# Altium integrated library Analog Devices Interface and Isolation Digital Isolators.IntLib: 645 symbols (part 22 of 36)
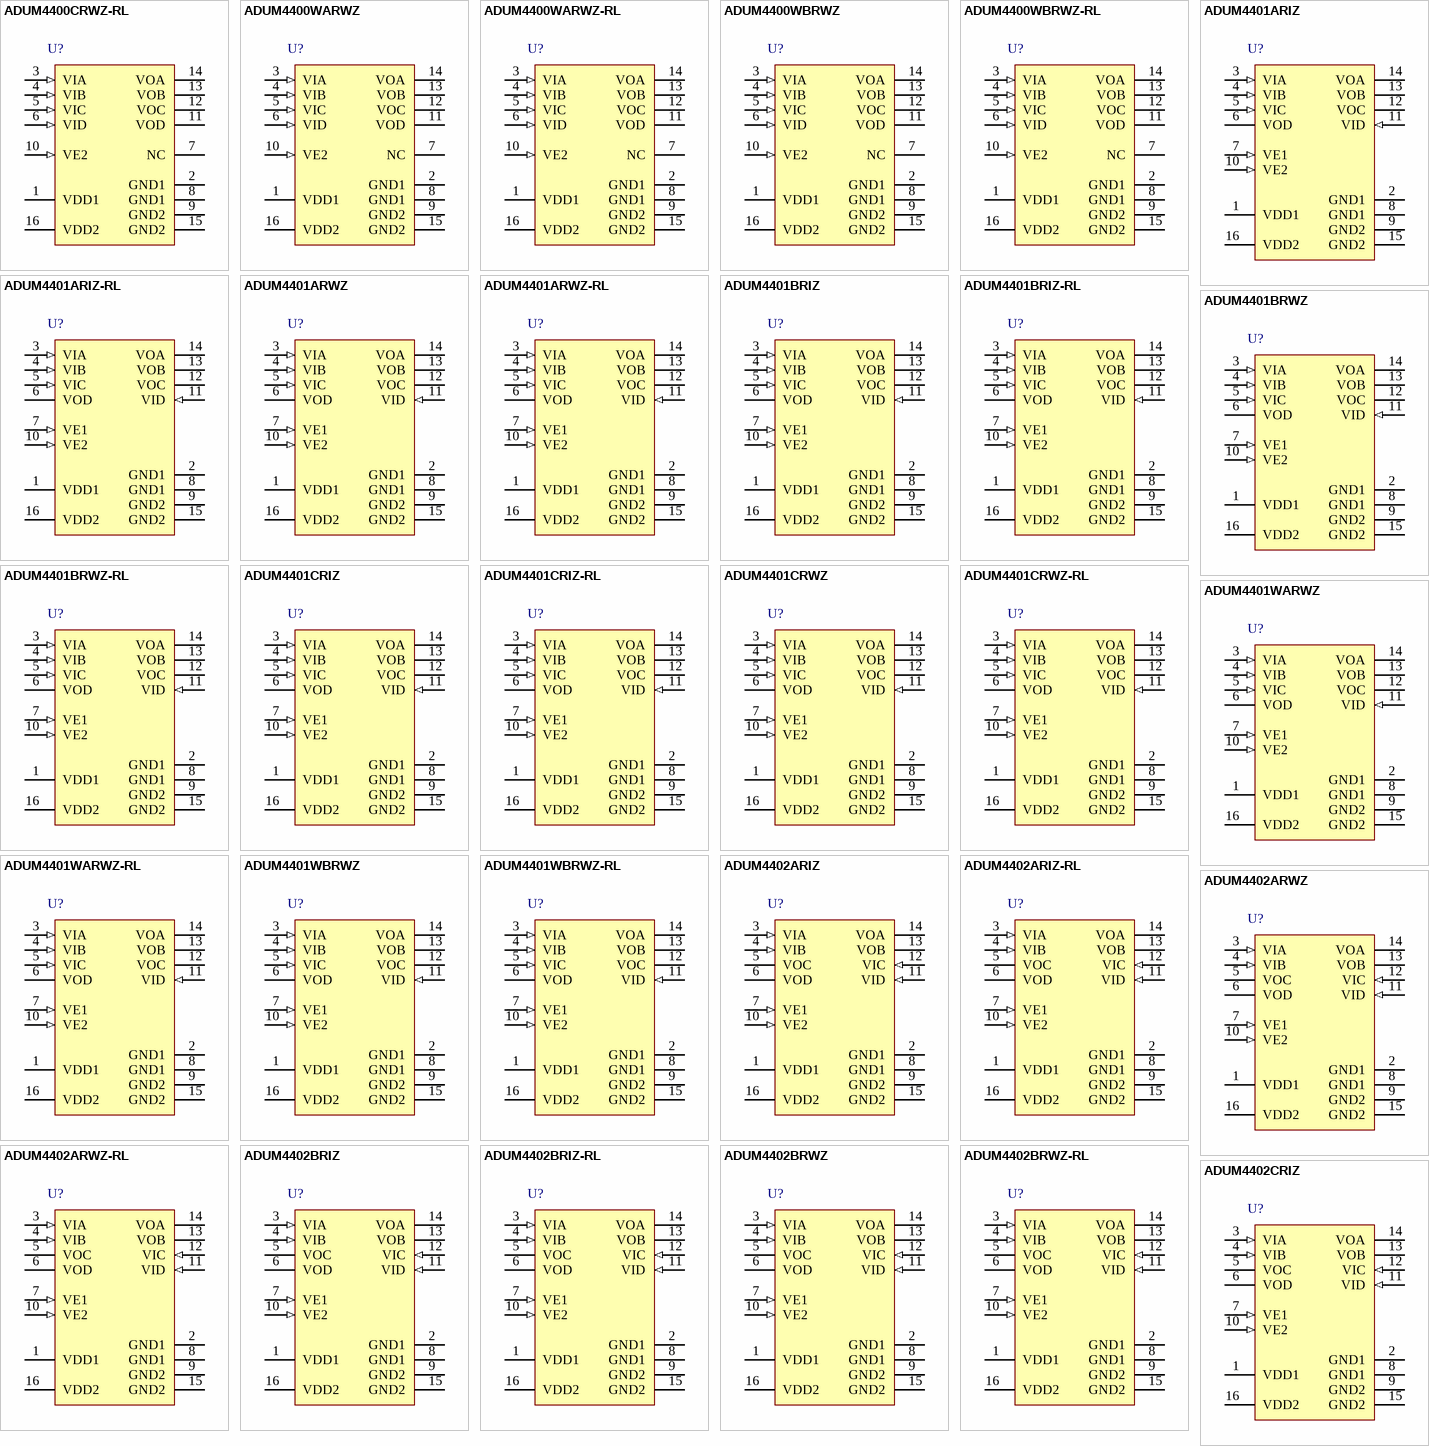
[diagram p41: symbols ADUM4400CRWZ-RL to ADUM4402CRIZ]

## ADUM4402BRIZ
designator U?
Quad Channel Digital Isolator, 5 KV rms Insulation Rating, 10 Mbps Data Rate, 50 ns Delay, Industrial, 16-pin SOIC (RI-16-1), Tube; Manufacturer: Analog Devices; PartNumber: ADUM4402BRIZ; Insulation Rating (kVrms): 5; Max Data Rate: 10Mbps; DatasheetVersion: Rev. C; PackageVersion: 10-12-2010-A, 02/2012; PackageReference: RI-16-1; PackageDescription: 16-Pin Standard Small Outline Package, with Increased Creepage, Body 12.8 x 7.5 mm, Pitch 1.27 mm; Supplier 1: Digi-Key; Supplier Part Number 1: ADUM4402BRIZ-ND; Max Operating Temp (degreesC): 105; Mounting Technology: Surface Mount; Code_JEDEC: MS-013-AC; ComponentLink1Description: Manufacturer URL; ComponentLink1URL: http://www.analog.com/en/index.html; ComponentLink2Description: Datasheet; ComponentLink2URL: http://www.analog.com/static/imported-files/data_sheets/ADuM4400_4401_4402.pdf; ComponentLink3Description: Package Specification; ComponentLink3URL: http://www.analog.com/static/imported-files/data_sheets/ADuM2400_2401_2402.pdf; ComponentLink4Description: URL Link1; ComponentLink4URL: Product URL:http://www.analog.com/en/interface-isolation/digital-isolators/adum4402/products/product.html
footprint ADI-RI-16-1_N (SOIC, 16-Leads, Body 12.8x7.5mm, Pitch 1.27mm, IPC Medium Density)
footprint ADI-RI-16-1_L (SOIC, 16-Leads, Body 12.8x7.5mm, Pitch 1.27mm, IPC High Density)
footprint ADI-RI-16-1_M (SOIC, 16-Leads, Body 12.8x7.5mm, Pitch 1.27mm, IPC Low Density)
pins: 1 VDD1 (power) "Supply Voltage for Isolator Side 1.", 2 GND1 (power) "Ground 1. Ground reference for Isolator Side 1.", 3 VIA (in) "Logic Input A.", 4 VIB (in) "Logic Input B.", 5 VOC (hiz) "Logic Output C.", 6 VOD (hiz) "Logic Output D.", 7 VE1 (in) "Output Enable 1. Active high logic input. VOC and VOD outputs are enabled when VE1 is high or disconnected. VOC and VOD outputs are disabled when VE1 is low. In noisy environments, connecting VE1 to an external logic high or (See Datasheet)", 8 GND1 (power) "Ground 1. Ground reference for Isolator Side 1.", 9 GND2 (power) "Ground 2. Ground reference for Isolator Side 2.", 10 VE2 (in) "Output Enable 2. Active high logic input. VOA and VOB outputs are enabled when VE2 is high or disconnected. VOA and VOB outputs are disabled when VE2 is low. In noisy environments, connecting VE2 to an external logic high or (See Datasheet)", 11 VID (in) "Logic Input D.", 12 VIC (in) "Logic Input C.", 13 VOB (hiz) "Logic Output B.", 14 VOA (hiz) "Logic Output A.", 15 GND2 (power) "Ground 2. Ground reference for Isolator Side 2.", 16 VDD2 (power) "Supply Voltage for Isolator Side 2."

## ADUM4402BRIZ-RL
designator U?
Quad Channel Digital Isolator, 5 KV rms Insulation Rating, 10 Mbps Data Rate, 50 ns Delay, Industrial, 16-pin SOIC (RI-16-1), Reel; Manufacturer: Analog Devices; PartNumber: ADUM4402BRIZ-RL; Insulation Rating (kVrms): 5; Max Data Rate: 10Mbps; DatasheetVersion: Rev. C; PackageVersion: 10-12-2010-A, 02/2012; PackageReference: RI-16-1; PackageDescription: 16-Pin Standard Small Outline Package, with Increased Creepage, Body 12.8 x 7.5 mm, Pitch 1.27 mm; Supplier 1: Digi-Key; Supplier Part Number 1: ADUM4402BRIZ-RL-ND; Max Operating Temp (degreesC): 105; Mounting Technology: Surface Mount; Code_JEDEC: MS-013-AC; ComponentLink1Description: Manufacturer URL; ComponentLink1URL: http://www.analog.com/en/index.html; ComponentLink2Description: Datasheet; ComponentLink2URL: http://www.analog.com/static/imported-files/data_sheets/ADuM4400_4401_4402.pdf; ComponentLink3Description: Package Specification; ComponentLink3URL: http://www.analog.com/static/imported-files/data_sheets/ADuM2400_2401_2402.pdf; ComponentLink4Description: URL Link1; ComponentLink4URL: Product URL:http://www.analog.com/en/interface-isolation/digital-isolators/adum4402/products/product.html
footprint ADI-RI-16-1_N (SOIC, 16-Leads, Body 12.8x7.5mm, Pitch 1.27mm, IPC Medium Density)
footprint ADI-RI-16-1_L (SOIC, 16-Leads, Body 12.8x7.5mm, Pitch 1.27mm, IPC High Density)
footprint ADI-RI-16-1_M (SOIC, 16-Leads, Body 12.8x7.5mm, Pitch 1.27mm, IPC Low Density)
pins: 1 VDD1 (power) "Supply Voltage for Isolator Side 1.", 2 GND1 (power) "Ground 1. Ground reference for Isolator Side 1.", 3 VIA (in) "Logic Input A.", 4 VIB (in) "Logic Input B.", 5 VOC (hiz) "Logic Output C.", 6 VOD (hiz) "Logic Output D.", 7 VE1 (in) "Output Enable 1. Active high logic input. VOC and VOD outputs are enabled when VE1 is high or disconnected. VOC and VOD outputs are disabled when VE1 is low. In noisy environments, connecting VE1 to an external logic high or (See Datasheet)", 8 GND1 (power) "Ground 1. Ground reference for Isolator Side 1.", 9 GND2 (power) "Ground 2. Ground reference for Isolator Side 2.", 10 VE2 (in) "Output Enable 2. Active high logic input. VOA and VOB outputs are enabled when VE2 is high or disconnected. VOA and VOB outputs are disabled when VE2 is low. In noisy environments, connecting VE2 to an external logic high or (See Datasheet)", 11 VID (in) "Logic Input D.", 12 VIC (in) "Logic Input C.", 13 VOB (hiz) "Logic Output B.", 14 VOA (hiz) "Logic Output A.", 15 GND2 (power) "Ground 2. Ground reference for Isolator Side 2.", 16 VDD2 (power) "Supply Voltage for Isolator Side 2."

## ADUM4402BRWZ
designator U?
Quad Channel Digital Isolator, 5 KV rms Insulation Rating, 10 Mbps Data Rate, 50 ns Delay, Industrial, 16-pin SOIC (RW-16), Tube; Manufacturer: Analog Devices; PartNumber: ADUM4402BRWZ; Insulation Rating (kVrms): 5; Max Data Rate: 10Mbps; DatasheetVersion: Rev. C; PackageVersion: 032707-B, 03/2007; PackageReference: RW-16; PackageDescription: 16-Pin Standard Small Outline Package, Body 10.3 x 7.5 mm, Pitch 1.27 mm; Supplier 1: Digi-Key; Supplier Part Number 1: ADUM4402BRWZ-ND; Max Operating Temp (degreesC): 105; Mounting Technology: Surface Mount; Code_JEDEC: MS-013-AA; ComponentLink1Description: Manufacturer URL; ComponentLink1URL: http://www.analog.com/en/index.html; ComponentLink2Description: Datasheet; ComponentLink2URL: http://www.analog.com/static/imported-files/data_sheets/ADuM4400_4401_4402.pdf; ComponentLink3Description: Package Specification; ComponentLink3URL: http://www.analog.com/static/imported-files/packages/PKG_PDF/SOIC_WIDE%20%28RW%29/RW_16.pdf; ComponentLink4Description: URL Link1; ComponentLink4URL: Product URL:http://www.analog.com/en/interface-isolation/digital-isolators/adum4402/products/product.html
footprint ADI-RW-16_N (SOIC, 16-Leads, Body 10.3x7.5mm, Pitch 1.27mm, IPC Medium Density)
footprint ADI-RW-16_L (SOIC, 16-Leads, Body 10.3x7.5mm, Pitch 1.27mm, IPC High Density)
footprint ADI-RW-16_M (SOIC, 16-Leads, Body 10.3x7.5mm, Pitch 1.27mm, IPC Low Density)
pins: 1 VDD1 (power) "Supply Voltage for Isolator Side 1.", 2 GND1 (power) "Ground 1. Ground reference for Isolator Side 1.", 3 VIA (in) "Logic Input A.", 4 VIB (in) "Logic Input B.", 5 VOC (hiz) "Logic Output C.", 6 VOD (hiz) "Logic Output D.", 7 VE1 (in) "Output Enable 1. Active high logic input. VOC and VOD outputs are enabled when VE1 is high or disconnected. VOC and VOD outputs are disabled when VE1 is low. In noisy environments, connecting VE1 to an external logic high or (See Datasheet)", 8 GND1 (power) "Ground 1. Ground reference for Isolator Side 1.", 9 GND2 (power) "Ground 2. Ground reference for Isolator Side 2.", 10 VE2 (in) "Output Enable 2. Active high logic input. VOA and VOB outputs are enabled when VE2 is high or disconnected. VOA and VOB outputs are disabled when VE2 is low. In noisy environments, connecting VE2 to an external logic high or (See Datasheet)", 11 VID (in) "Logic Input D.", 12 VIC (in) "Logic Input C.", 13 VOB (hiz) "Logic Output B.", 14 VOA (hiz) "Logic Output A.", 15 GND2 (power) "Ground 2. Ground reference for Isolator Side 2.", 16 VDD2 (power) "Supply Voltage for Isolator Side 2."

## ADUM4402BRWZ-RL
designator U?
Quad Channel Digital Isolator, 5 KV rms Insulation Rating, 10 Mbps Data Rate, 50 ns Delay, Industrial, 16-pin SOIC (RW-16), Reel; Manufacturer: Analog Devices; PartNumber: ADUM4402BRWZ-RL; Insulation Rating (kVrms): 5; Max Data Rate: 10Mbps; DatasheetVersion: Rev. C; PackageVersion: 032707-B, 03/2007; PackageReference: RW-16; PackageDescription: 16-Pin Standard Small Outline Package, Body 10.3 x 7.5 mm, Pitch 1.27 mm; Supplier 1: Digi-Key; Supplier Part Number 1: ADUM4402BRWZ-RL-ND; Max Operating Temp (degreesC): 105; Mounting Technology: Surface Mount; Code_JEDEC: MS-013-AA; ComponentLink1Description: Manufacturer URL; ComponentLink1URL: http://www.analog.com/en/index.html; ComponentLink2Description: Datasheet; ComponentLink2URL: http://www.analog.com/static/imported-files/data_sheets/ADuM4400_4401_4402.pdf; ComponentLink3Description: Package Specification; ComponentLink3URL: http://www.analog.com/static/imported-files/packages/PKG_PDF/SOIC_WIDE%20%28RW%29/RW_16.pdf; ComponentLink4Description: URL Link1; ComponentLink4URL: Product URL:http://www.analog.com/en/interface-isolation/digital-isolators/adum4402/products/product.html
footprint ADI-RW-16_N (SOIC, 16-Leads, Body 10.3x7.5mm, Pitch 1.27mm, IPC Medium Density)
footprint ADI-RW-16_L (SOIC, 16-Leads, Body 10.3x7.5mm, Pitch 1.27mm, IPC High Density)
footprint ADI-RW-16_M (SOIC, 16-Leads, Body 10.3x7.5mm, Pitch 1.27mm, IPC Low Density)
pins: 1 VDD1 (power) "Supply Voltage for Isolator Side 1.", 2 GND1 (power) "Ground 1. Ground reference for Isolator Side 1.", 3 VIA (in) "Logic Input A.", 4 VIB (in) "Logic Input B.", 5 VOC (hiz) "Logic Output C.", 6 VOD (hiz) "Logic Output D.", 7 VE1 (in) "Output Enable 1. Active high logic input. VOC and VOD outputs are enabled when VE1 is high or disconnected. VOC and VOD outputs are disabled when VE1 is low. In noisy environments, connecting VE1 to an external logic high or (See Datasheet)", 8 GND1 (power) "Ground 1. Ground reference for Isolator Side 1.", 9 GND2 (power) "Ground 2. Ground reference for Isolator Side 2.", 10 VE2 (in) "Output Enable 2. Active high logic input. VOA and VOB outputs are enabled when VE2 is high or disconnected. VOA and VOB outputs are disabled when VE2 is low. In noisy environments, connecting VE2 to an external logic high or (See Datasheet)", 11 VID (in) "Logic Input D.", 12 VIC (in) "Logic Input C.", 13 VOB (hiz) "Logic Output B.", 14 VOA (hiz) "Logic Output A.", 15 GND2 (power) "Ground 2. Ground reference for Isolator Side 2.", 16 VDD2 (power) "Supply Voltage for Isolator Side 2."

## ADUM4402CRIZ
designator U?
Quad Channel Digital Isolator, 5 KV rms Insulation Rating, 90 Mbps Data Rate, 32 ns Delay, Industrial, 16-pin SOIC (RI-16-1), Tube; Manufacturer: Analog Devices; PartNumber: ADUM4402CRIZ; Insulation Rating (kVrms): 5; Max Data Rate: 90Mbps; DatasheetVersion: Rev. C; PackageVersion: 10-12-2010-A, 02/2012; PackageReference: RI-16-1; PackageDescription: 16-Pin Standard Small Outline Package, with Increased Creepage, Body 12.8 x 7.5 mm, Pitch 1.27 mm; Supplier 1: Digi-Key; Supplier Part Number 1: ADUM4402CRIZ-ND; Max Operating Temp (degreesC): 105; Mounting Technology: Surface Mount; Code_JEDEC: MS-013-AC; ComponentLink1Description: Manufacturer URL; ComponentLink1URL: http://www.analog.com/en/index.html; ComponentLink2Description: Datasheet; ComponentLink2URL: http://www.analog.com/static/imported-files/data_sheets/ADuM4400_4401_4402.pdf; ComponentLink3Description: Package Specification; ComponentLink3URL: http://www.analog.com/static/imported-files/data_sheets/ADuM2400_2401_2402.pdf; ComponentLink4Description: URL Link1; ComponentLink4URL: Product URL:http://www.analog.com/en/interface-isolation/digital-isolators/adum4402/products/product.html
footprint ADI-RI-16-1_N (SOIC, 16-Leads, Body 12.8x7.5mm, Pitch 1.27mm, IPC Medium Density)
footprint ADI-RI-16-1_L (SOIC, 16-Leads, Body 12.8x7.5mm, Pitch 1.27mm, IPC High Density)
footprint ADI-RI-16-1_M (SOIC, 16-Leads, Body 12.8x7.5mm, Pitch 1.27mm, IPC Low Density)
pins: 1 VDD1 (power) "Supply Voltage for Isolator Side 1.", 2 GND1 (power) "Ground 1. Ground reference for Isolator Side 1.", 3 VIA (in) "Logic Input A.", 4 VIB (in) "Logic Input B.", 5 VOC (hiz) "Logic Output C.", 6 VOD (hiz) "Logic Output D.", 7 VE1 (in) "Output Enable 1. Active high logic input. VOC and VOD outputs are enabled when VE1 is high or disconnected. VOC and VOD outputs are disabled when VE1 is low. In noisy environments, connecting VE1 to an external logic high or (See Datasheet)", 8 GND1 (power) "Ground 1. Ground reference for Isolator Side 1.", 9 GND2 (power) "Ground 2. Ground reference for Isolator Side 2.", 10 VE2 (in) "Output Enable 2. Active high logic input. VOA and VOB outputs are enabled when VE2 is high or disconnected. VOA and VOB outputs are disabled when VE2 is low. In noisy environments, connecting VE2 to an external logic high or (See Datasheet)", 11 VID (in) "Logic Input D.", 12 VIC (in) "Logic Input C.", 13 VOB (hiz) "Logic Output B.", 14 VOA (hiz) "Logic Output A.", 15 GND2 (power) "Ground 2. Ground reference for Isolator Side 2.", 16 VDD2 (power) "Supply Voltage for Isolator Side 2."

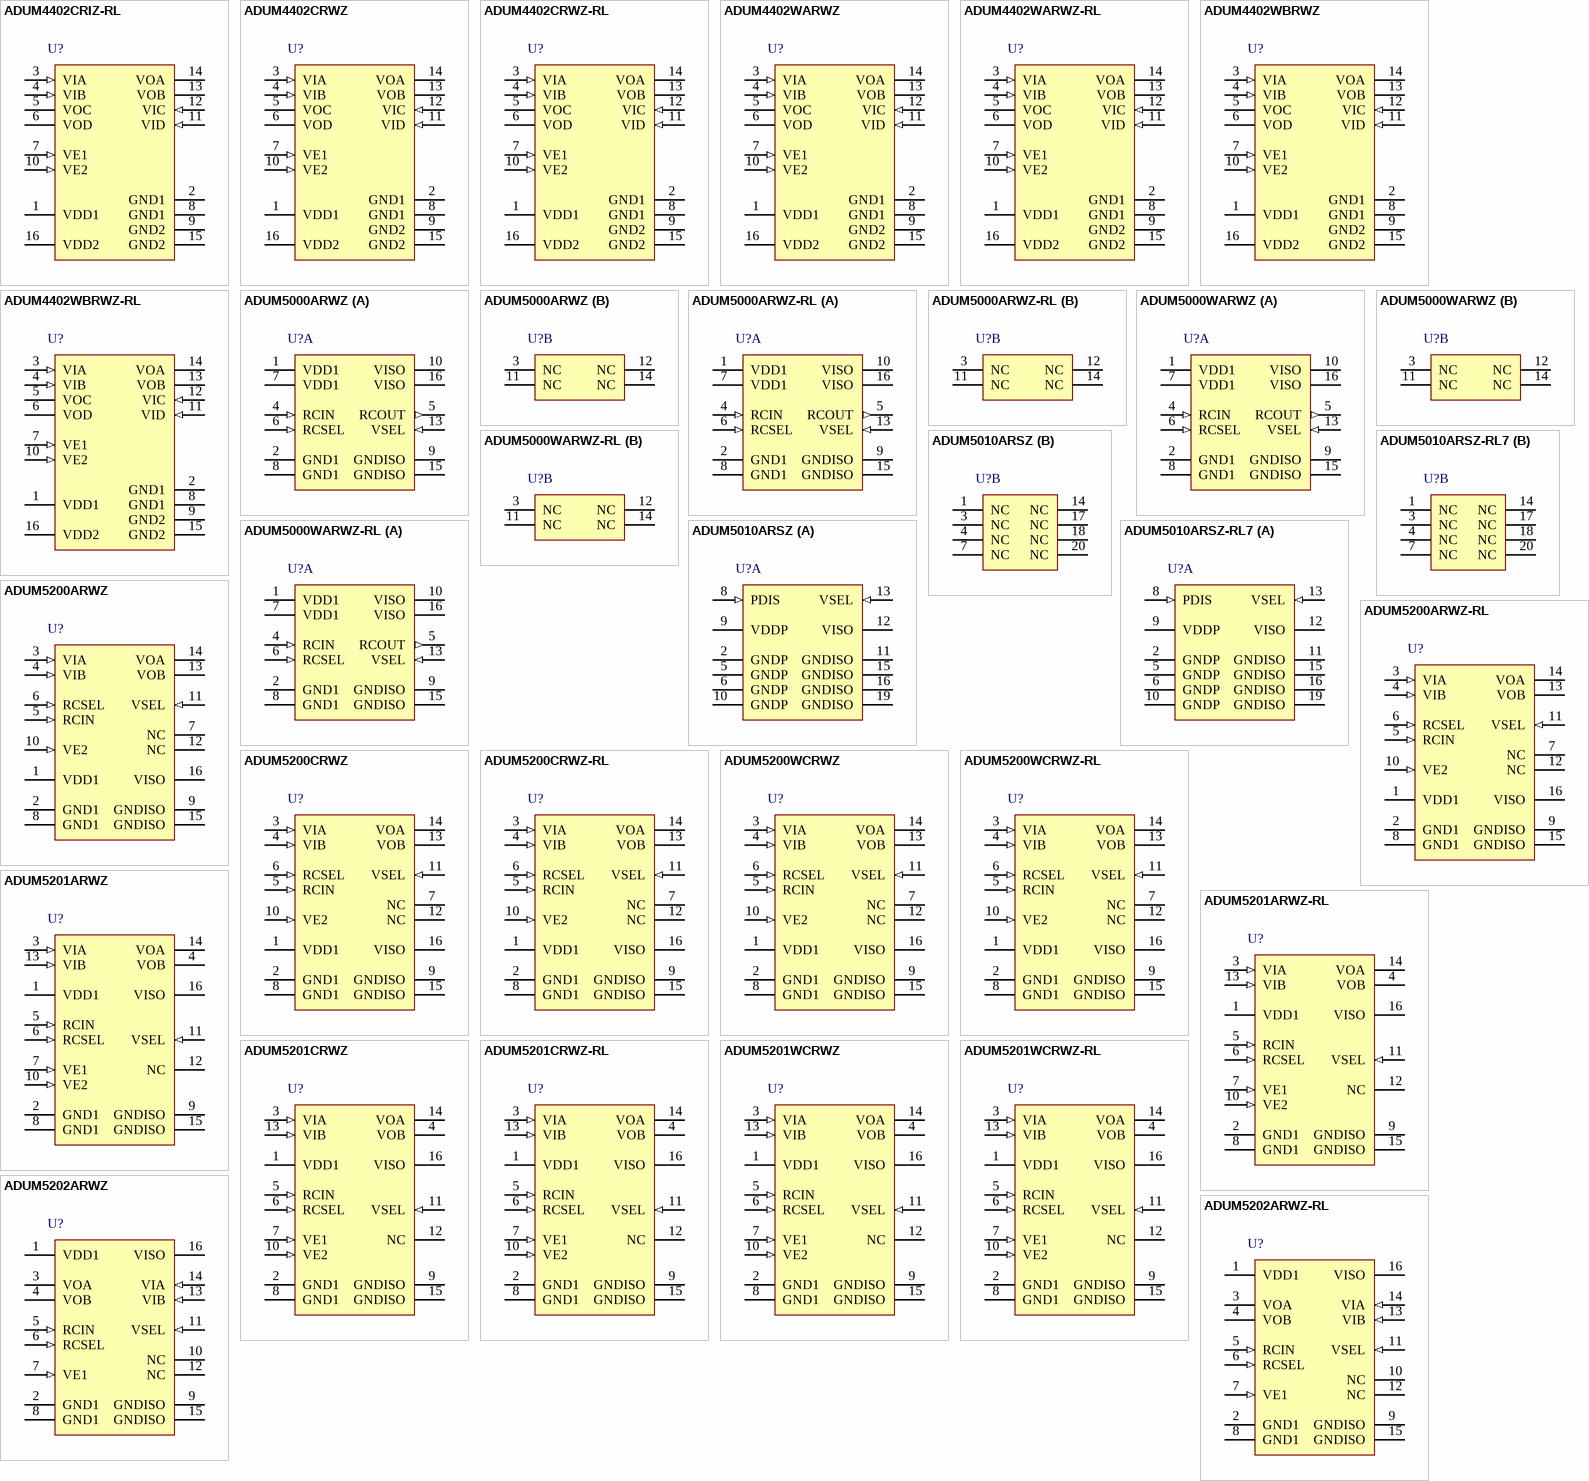
[diagram p14: symbols ADUM4402CRIZ-RL to ADUM5202ARWZ-RL]

## ADUM4402CRIZ-RL
designator U?
Quad Channel Digital Isolator, 5 KV rms Insulation Rating, 90 Mbps Data Rate, 32 ns Delay, Industrial, 16-pin SOIC (RI-16-1), Reel; Manufacturer: Analog Devices; PartNumber: ADUM4402CRIZ-RL; Insulation Rating (kVrms): 5; Max Data Rate: 90Mbps; DatasheetVersion: Rev. C; PackageVersion: 10-12-2010-A, 02/2012; PackageReference: RI-16-1; PackageDescription: 16-Pin Standard Small Outline Package, with Increased Creepage, Body 12.8 x 7.5 mm, Pitch 1.27 mm; Supplier 1: Digi-Key; Supplier Part Number 1: ADUM4402CRIZ-RL-ND; Max Operating Temp (degreesC): 105; Mounting Technology: Surface Mount; Code_JEDEC: MS-013-AC; ComponentLink1Description: Manufacturer URL; ComponentLink1URL: http://www.analog.com/en/index.html; ComponentLink2Description: Datasheet; ComponentLink2URL: http://www.analog.com/static/imported-files/data_sheets/ADuM4400_4401_4402.pdf; ComponentLink3Description: Package Specification; ComponentLink3URL: http://www.analog.com/static/imported-files/data_sheets/ADuM2400_2401_2402.pdf; ComponentLink4Description: URL Link1; ComponentLink4URL: Product URL:http://www.analog.com/en/interface-isolation/digital-isolators/adum4402/products/product.html
footprint ADI-RI-16-1_N (SOIC, 16-Leads, Body 12.8x7.5mm, Pitch 1.27mm, IPC Medium Density)
footprint ADI-RI-16-1_L (SOIC, 16-Leads, Body 12.8x7.5mm, Pitch 1.27mm, IPC High Density)
footprint ADI-RI-16-1_M (SOIC, 16-Leads, Body 12.8x7.5mm, Pitch 1.27mm, IPC Low Density)
pins: 1 VDD1 (power) "Supply Voltage for Isolator Side 1.", 2 GND1 (power) "Ground 1. Ground reference for Isolator Side 1.", 3 VIA (in) "Logic Input A.", 4 VIB (in) "Logic Input B.", 5 VOC (hiz) "Logic Output C.", 6 VOD (hiz) "Logic Output D.", 7 VE1 (in) "Output Enable 1. Active high logic input. VOC and VOD outputs are enabled when VE1 is high or disconnected. VOC and VOD outputs are disabled when VE1 is low. In noisy environments, connecting VE1 to an external logic high or (See Datasheet)", 8 GND1 (power) "Ground 1. Ground reference for Isolator Side 1.", 9 GND2 (power) "Ground 2. Ground reference for Isolator Side 2.", 10 VE2 (in) "Output Enable 2. Active high logic input. VOA and VOB outputs are enabled when VE2 is high or disconnected. VOA and VOB outputs are disabled when VE2 is low. In noisy environments, connecting VE2 to an external logic high or (See Datasheet)", 11 VID (in) "Logic Input D.", 12 VIC (in) "Logic Input C.", 13 VOB (hiz) "Logic Output B.", 14 VOA (hiz) "Logic Output A.", 15 GND2 (power) "Ground 2. Ground reference for Isolator Side 2.", 16 VDD2 (power) "Supply Voltage for Isolator Side 2."

## ADUM4402CRWZ
designator U?
Quad Channel Digital Isolator, 5 KV rms Insulation Rating, 90 Mbps Data Rate, 32 ns Delay, Industrial, 16-pin SOIC (RW-16), Tube; Manufacturer: Analog Devices; PartNumber: ADUM4402CRWZ; Insulation Rating (kVrms): 5; Max Data Rate: 90Mbps; DatasheetVersion: Rev. C; PackageVersion: 032707-B, 03/2007; PackageReference: RW-16; PackageDescription: 16-Pin Standard Small Outline Package, Body 10.3 x 7.5 mm, Pitch 1.27 mm; Supplier 1: Digi-Key; Supplier Part Number 1: ADUM4402CRWZ-ND; Max Operating Temp (degreesC): 105; Mounting Technology: Surface Mount; Code_JEDEC: MS-013-AA; ComponentLink1Description: Manufacturer URL; ComponentLink1URL: http://www.analog.com/en/index.html; ComponentLink2Description: Datasheet; ComponentLink2URL: http://www.analog.com/static/imported-files/data_sheets/ADuM4400_4401_4402.pdf; ComponentLink3Description: Package Specification; ComponentLink3URL: http://www.analog.com/static/imported-files/packages/PKG_PDF/SOIC_WIDE%20%28RW%29/RW_16.pdf; ComponentLink4Description: URL Link1; ComponentLink4URL: Product URL:http://www.analog.com/en/interface-isolation/digital-isolators/adum4402/products/product.html
footprint ADI-RW-16_N (SOIC, 16-Leads, Body 10.3x7.5mm, Pitch 1.27mm, IPC Medium Density)
footprint ADI-RW-16_L (SOIC, 16-Leads, Body 10.3x7.5mm, Pitch 1.27mm, IPC High Density)
footprint ADI-RW-16_M (SOIC, 16-Leads, Body 10.3x7.5mm, Pitch 1.27mm, IPC Low Density)
pins: 1 VDD1 (power) "Supply Voltage for Isolator Side 1.", 2 GND1 (power) "Ground 1. Ground reference for Isolator Side 1.", 3 VIA (in) "Logic Input A.", 4 VIB (in) "Logic Input B.", 5 VOC (hiz) "Logic Output C.", 6 VOD (hiz) "Logic Output D.", 7 VE1 (in) "Output Enable 1. Active high logic input. VOC and VOD outputs are enabled when VE1 is high or disconnected. VOC and VOD outputs are disabled when VE1 is low. In noisy environments, connecting VE1 to an external logic high or (See Datasheet)", 8 GND1 (power) "Ground 1. Ground reference for Isolator Side 1.", 9 GND2 (power) "Ground 2. Ground reference for Isolator Side 2.", 10 VE2 (in) "Output Enable 2. Active high logic input. VOA and VOB outputs are enabled when VE2 is high or disconnected. VOA and VOB outputs are disabled when VE2 is low. In noisy environments, connecting VE2 to an external logic high or (See Datasheet)", 11 VID (in) "Logic Input D.", 12 VIC (in) "Logic Input C.", 13 VOB (hiz) "Logic Output B.", 14 VOA (hiz) "Logic Output A.", 15 GND2 (power) "Ground 2. Ground reference for Isolator Side 2.", 16 VDD2 (power) "Supply Voltage for Isolator Side 2."

## ADUM4402CRWZ-RL
designator U?
Quad Channel Digital Isolator, 5 KV rms Insulation Rating, 90 Mbps Data Rate, 32 ns Delay, Industrial, 16-pin SOIC (RW-16), Reel; Manufacturer: Analog Devices; PartNumber: ADUM4402CRWZ-RL; Insulation Rating (kVrms): 5; Max Data Rate: 90Mbps; DatasheetVersion: Rev. C; PackageVersion: 032707-B, 03/2007; PackageReference: RW-16; PackageDescription: 16-Pin Standard Small Outline Package, Body 10.3 x 7.5 mm, Pitch 1.27 mm; Supplier 1: Digi-Key; Supplier Part Number 1: ADUM4402CRWZ-RL-ND; Max Operating Temp (degreesC): 105; Mounting Technology: Surface Mount; Code_JEDEC: MS-013-AA; ComponentLink1Description: Manufacturer URL; ComponentLink1URL: http://www.analog.com/en/index.html; ComponentLink2Description: Datasheet; ComponentLink2URL: http://www.analog.com/static/imported-files/data_sheets/ADuM4400_4401_4402.pdf; ComponentLink3Description: Package Specification; ComponentLink3URL: http://www.analog.com/static/imported-files/packages/PKG_PDF/SOIC_WIDE%20%28RW%29/RW_16.pdf; ComponentLink4Description: URL Link1; ComponentLink4URL: Product URL:http://www.analog.com/en/interface-isolation/digital-isolators/adum4402/products/product.html
footprint ADI-RW-16_N (SOIC, 16-Leads, Body 10.3x7.5mm, Pitch 1.27mm, IPC Medium Density)
footprint ADI-RW-16_L (SOIC, 16-Leads, Body 10.3x7.5mm, Pitch 1.27mm, IPC High Density)
footprint ADI-RW-16_M (SOIC, 16-Leads, Body 10.3x7.5mm, Pitch 1.27mm, IPC Low Density)
pins: 1 VDD1 (power) "Supply Voltage for Isolator Side 1.", 2 GND1 (power) "Ground 1. Ground reference for Isolator Side 1.", 3 VIA (in) "Logic Input A.", 4 VIB (in) "Logic Input B.", 5 VOC (hiz) "Logic Output C.", 6 VOD (hiz) "Logic Output D.", 7 VE1 (in) "Output Enable 1. Active high logic input. VOC and VOD outputs are enabled when VE1 is high or disconnected. VOC and VOD outputs are disabled when VE1 is low. In noisy environments, connecting VE1 to an external logic high or (See Datasheet)", 8 GND1 (power) "Ground 1. Ground reference for Isolator Side 1.", 9 GND2 (power) "Ground 2. Ground reference for Isolator Side 2.", 10 VE2 (in) "Output Enable 2. Active high logic input. VOA and VOB outputs are enabled when VE2 is high or disconnected. VOA and VOB outputs are disabled when VE2 is low. In noisy environments, connecting VE2 to an external logic high or (See Datasheet)", 11 VID (in) "Logic Input D.", 12 VIC (in) "Logic Input C.", 13 VOB (hiz) "Logic Output B.", 14 VOA (hiz) "Logic Output A.", 15 GND2 (power) "Ground 2. Ground reference for Isolator Side 2.", 16 VDD2 (power) "Supply Voltage for Isolator Side 2."

## ADUM4402WARWZ
designator U?
Quad Channel Digital Isolator, 5 KV rms Insulation Rating, 1 Mbps Data Rate, 100 ns Delay, Automotive, 16-pin SOIC (RW-16), Tube; Manufacturer: Analog Devices; PartNumber: ADUM4402WARWZ; Automotive Qualified: Yes; Insulation Rating (kVrms): 5; Max Data Rate: 1Mbps; DatasheetVersion: Rev. C; PackageVersion: 032707-B, 03/2007; PackageReference: RW-16; PackageDescription: 16-Pin Standard Small Outline Package, Body 10.3 x 7.5 mm, Pitch 1.27 mm; Supplier 1: Digi-Key; Supplier Part Number 1: ADUM4402WARWZ-ND; Max Operating Temp (degreesC): 105; Mounting Technology: Surface Mount; Code_JEDEC: MS-013-AA; ComponentLink1Description: Manufacturer URL; ComponentLink1URL: http://www.analog.com/en/index.html; ComponentLink2Description: Datasheet; ComponentLink2URL: http://www.analog.com/static/imported-files/data_sheets/ADuM4400_4401_4402.pdf; ComponentLink3Description: Package Specification; ComponentLink3URL: http://www.analog.com/static/imported-files/packages/PKG_PDF/SOIC_WIDE%20%28RW%29/RW_16.pdf; ComponentLink4Description: URL Link1; ComponentLink4URL: Product URL:http://www.analog.com/en/interface-isolation/digital-isolators/adum4402/products/product.html
footprint ADI-RW-16_N (SOIC, 16-Leads, Body 10.3x7.5mm, Pitch 1.27mm, IPC Medium Density)
footprint ADI-RW-16_L (SOIC, 16-Leads, Body 10.3x7.5mm, Pitch 1.27mm, IPC High Density)
footprint ADI-RW-16_M (SOIC, 16-Leads, Body 10.3x7.5mm, Pitch 1.27mm, IPC Low Density)
pins: 1 VDD1 (power) "Supply Voltage for Isolator Side 1.", 2 GND1 (power) "Ground 1. Ground reference for Isolator Side 1.", 3 VIA (in) "Logic Input A.", 4 VIB (in) "Logic Input B.", 5 VOC (hiz) "Logic Output C.", 6 VOD (hiz) "Logic Output D.", 7 VE1 (in) "Output Enable 1. Active high logic input. VOC and VOD outputs are enabled when VE1 is high or disconnected. VOC and VOD outputs are disabled when VE1 is low. In noisy environments, connecting VE1 to an external logic high or (See Datasheet)", 8 GND1 (power) "Ground 1. Ground reference for Isolator Side 1.", 9 GND2 (power) "Ground 2. Ground reference for Isolator Side 2.", 10 VE2 (in) "Output Enable 2. Active high logic input. VOA and VOB outputs are enabled when VE2 is high or disconnected. VOA and VOB outputs are disabled when VE2 is low. In noisy environments, connecting VE2 to an external logic high or (See Datasheet)", 11 VID (in) "Logic Input D.", 12 VIC (in) "Logic Input C.", 13 VOB (hiz) "Logic Output B.", 14 VOA (hiz) "Logic Output A.", 15 GND2 (power) "Ground 2. Ground reference for Isolator Side 2.", 16 VDD2 (power) "Supply Voltage for Isolator Side 2."

## ADUM4402WARWZ-RL
designator U?
Quad Channel Digital Isolator, 5 KV rms Insulation Rating, 1 Mbps Data Rate, 100 ns Delay, Automotive, 16-pin SOIC (RW-16), Reel; Manufacturer: Analog Devices; PartNumber: ADUM4402WARWZ-RL; Automotive Qualified: Yes; Insulation Rating (kVrms): 5; Max Data Rate: 1Mbps; DatasheetVersion: Rev. C; PackageVersion: 032707-B, 03/2007; PackageReference: RW-16; PackageDescription: 16-Pin Standard Small Outline Package, Body 10.3 x 7.5 mm, Pitch 1.27 mm; Supplier 1: Digi-Key; Supplier Part Number 1: ADUM4402WARWZ-RL-ND; Max Operating Temp (degreesC): 105; Mounting Technology: Surface Mount; Code_JEDEC: MS-013-AA; ComponentLink1Description: Manufacturer URL; ComponentLink1URL: http://www.analog.com/en/index.html; ComponentLink2Description: Datasheet; ComponentLink2URL: http://www.analog.com/static/imported-files/data_sheets/ADuM4400_4401_4402.pdf; ComponentLink3Description: Package Specification; ComponentLink3URL: http://www.analog.com/static/imported-files/packages/PKG_PDF/SOIC_WIDE%20%28RW%29/RW_16.pdf; ComponentLink4Description: URL Link1; ComponentLink4URL: Product URL:http://www.analog.com/en/interface-isolation/digital-isolators/adum4402/products/product.html
footprint ADI-RW-16_N (SOIC, 16-Leads, Body 10.3x7.5mm, Pitch 1.27mm, IPC Medium Density)
footprint ADI-RW-16_L (SOIC, 16-Leads, Body 10.3x7.5mm, Pitch 1.27mm, IPC High Density)
footprint ADI-RW-16_M (SOIC, 16-Leads, Body 10.3x7.5mm, Pitch 1.27mm, IPC Low Density)
pins: 1 VDD1 (power) "Supply Voltage for Isolator Side 1.", 2 GND1 (power) "Ground 1. Ground reference for Isolator Side 1.", 3 VIA (in) "Logic Input A.", 4 VIB (in) "Logic Input B.", 5 VOC (hiz) "Logic Output C.", 6 VOD (hiz) "Logic Output D.", 7 VE1 (in) "Output Enable 1. Active high logic input. VOC and VOD outputs are enabled when VE1 is high or disconnected. VOC and VOD outputs are disabled when VE1 is low. In noisy environments, connecting VE1 to an external logic high or (See Datasheet)", 8 GND1 (power) "Ground 1. Ground reference for Isolator Side 1.", 9 GND2 (power) "Ground 2. Ground reference for Isolator Side 2.", 10 VE2 (in) "Output Enable 2. Active high logic input. VOA and VOB outputs are enabled when VE2 is high or disconnected. VOA and VOB outputs are disabled when VE2 is low. In noisy environments, connecting VE2 to an external logic high or (See Datasheet)", 11 VID (in) "Logic Input D.", 12 VIC (in) "Logic Input C.", 13 VOB (hiz) "Logic Output B.", 14 VOA (hiz) "Logic Output A.", 15 GND2 (power) "Ground 2. Ground reference for Isolator Side 2.", 16 VDD2 (power) "Supply Voltage for Isolator Side 2."

## ADUM4402WBRWZ
designator U?
Quad Channel Digital Isolator, 5 KV rms Insulation Rating, 10 Mbps Data Rate, 50 ns Delay, Automotive, 16-pin SOIC (RW-16), Tube; Manufacturer: Analog Devices; PartNumber: ADUM4402WBRWZ; Automotive Qualified: Yes; Insulation Rating (kVrms): 5; Max Data Rate: 10Mbps; DatasheetVersion: Rev. C; PackageVersion: 032707-B, 03/2007; PackageReference: RW-16; PackageDescription: 16-Pin Standard Small Outline Package, Body 10.3 x 7.5 mm, Pitch 1.27 mm; Supplier 1: Digi-Key; Supplier Part Number 1: ADUM4402WBRWZ-ND; Max Operating Temp (degreesC): 105; Mounting Technology: Surface Mount; Code_JEDEC: MS-013-AA; ComponentLink1Description: Manufacturer URL; ComponentLink1URL: http://www.analog.com/en/index.html; ComponentLink2Description: Datasheet; ComponentLink2URL: http://www.analog.com/static/imported-files/data_sheets/ADuM4400_4401_4402.pdf; ComponentLink3Description: Package Specification; ComponentLink3URL: http://www.analog.com/static/imported-files/packages/PKG_PDF/SOIC_WIDE%20%28RW%29/RW_16.pdf; ComponentLink4Description: URL Link1; ComponentLink4URL: Product URL:http://www.analog.com/en/interface-isolation/digital-isolators/adum4402/products/product.html
footprint ADI-RW-16_N (SOIC, 16-Leads, Body 10.3x7.5mm, Pitch 1.27mm, IPC Medium Density)
footprint ADI-RW-16_L (SOIC, 16-Leads, Body 10.3x7.5mm, Pitch 1.27mm, IPC High Density)
footprint ADI-RW-16_M (SOIC, 16-Leads, Body 10.3x7.5mm, Pitch 1.27mm, IPC Low Density)
pins: 1 VDD1 (power) "Supply Voltage for Isolator Side 1.", 2 GND1 (power) "Ground 1. Ground reference for Isolator Side 1.", 3 VIA (in) "Logic Input A.", 4 VIB (in) "Logic Input B.", 5 VOC (hiz) "Logic Output C.", 6 VOD (hiz) "Logic Output D.", 7 VE1 (in) "Output Enable 1. Active high logic input. VOC and VOD outputs are enabled when VE1 is high or disconnected. VOC and VOD outputs are disabled when VE1 is low. In noisy environments, connecting VE1 to an external logic high or (See Datasheet)", 8 GND1 (power) "Ground 1. Ground reference for Isolator Side 1.", 9 GND2 (power) "Ground 2. Ground reference for Isolator Side 2.", 10 VE2 (in) "Output Enable 2. Active high logic input. VOA and VOB outputs are enabled when VE2 is high or disconnected. VOA and VOB outputs are disabled when VE2 is low. In noisy environments, connecting VE2 to an external logic high or (See Datasheet)", 11 VID (in) "Logic Input D.", 12 VIC (in) "Logic Input C.", 13 VOB (hiz) "Logic Output B.", 14 VOA (hiz) "Logic Output A.", 15 GND2 (power) "Ground 2. Ground reference for Isolator Side 2.", 16 VDD2 (power) "Supply Voltage for Isolator Side 2."

## ADUM4402WBRWZ-RL
designator U?
Quad Channel Digital Isolator, 5 KV rms Insulation Rating, 10 Mbps Data Rate, 50 ns Delay, Automotive, 16-pin SOIC (RW-16), Reel; Manufacturer: Analog Devices; PartNumber: ADUM4402WBRWZ-RL; Automotive Qualified: Yes; Insulation Rating (kVrms): 5; Max Data Rate: 10Mbps; DatasheetVersion: Rev. C; PackageVersion: 032707-B, 03/2007; PackageReference: RW-16; PackageDescription: 16-Pin Standard Small Outline Package, Body 10.3 x 7.5 mm, Pitch 1.27 mm; Supplier 1: Digi-Key; Supplier Part Number 1: ADUM4402WBRWZ-RL-ND; Max Operating Temp (degreesC): 105; Mounting Technology: Surface Mount; Code_JEDEC: MS-013-AA; ComponentLink1Description: Manufacturer URL; ComponentLink1URL: http://www.analog.com/en/index.html; ComponentLink2Description: Datasheet; ComponentLink2URL: http://www.analog.com/static/imported-files/data_sheets/ADuM4400_4401_4402.pdf; ComponentLink3Description: Package Specification; ComponentLink3URL: http://www.analog.com/static/imported-files/packages/PKG_PDF/SOIC_WIDE%20%28RW%29/RW_16.pdf; ComponentLink4Description: URL Link1; ComponentLink4URL: Product URL:http://www.analog.com/en/interface-isolation/digital-isolators/adum4402/products/product.html
footprint ADI-RW-16_N (SOIC, 16-Leads, Body 10.3x7.5mm, Pitch 1.27mm, IPC Medium Density)
footprint ADI-RW-16_L (SOIC, 16-Leads, Body 10.3x7.5mm, Pitch 1.27mm, IPC High Density)
footprint ADI-RW-16_M (SOIC, 16-Leads, Body 10.3x7.5mm, Pitch 1.27mm, IPC Low Density)
pins: 1 VDD1 (power) "Supply Voltage for Isolator Side 1.", 2 GND1 (power) "Ground 1. Ground reference for Isolator Side 1.", 3 VIA (in) "Logic Input A.", 4 VIB (in) "Logic Input B.", 5 VOC (hiz) "Logic Output C.", 6 VOD (hiz) "Logic Output D.", 7 VE1 (in) "Output Enable 1. Active high logic input. VOC and VOD outputs are enabled when VE1 is high or disconnected. VOC and VOD outputs are disabled when VE1 is low. In noisy environments, connecting VE1 to an external logic high or (See Datasheet)", 8 GND1 (power) "Ground 1. Ground reference for Isolator Side 1.", 9 GND2 (power) "Ground 2. Ground reference for Isolator Side 2.", 10 VE2 (in) "Output Enable 2. Active high logic input. VOA and VOB outputs are enabled when VE2 is high or disconnected. VOA and VOB outputs are disabled when VE2 is low. In noisy environments, connecting VE2 to an external logic high or (See Datasheet)", 11 VID (in) "Logic Input D.", 12 VIC (in) "Logic Input C.", 13 VOB (hiz) "Logic Output B.", 14 VOA (hiz) "Logic Output A.", 15 GND2 (power) "Ground 2. Ground reference for Isolator Side 2.", 16 VDD2 (power) "Supply Voltage for Isolator Side 2."

## ADUM5000ARWZ
designator U?
Isolated DC / DC Converter, 2.5 KV rms Insulation Rating, Industrial, 16-pin SOIC (RW-16), Tube; Manufacturer: Analog Devices; PartNumber: ADUM5000ARWZ; Insulation Rating (kVrms): 2.5; DatasheetVersion: Rev. B; PackageVersion: 032707-B, 03/2007; PackageReference: RW-16; PackageDescription: 16-Pin Standard Small Outline Package, Body 10.3 x 7.5 mm, Pitch 1.27 mm; Supplier 1: Digi-Key; Supplier Part Number 1: ADUM5000ARWZ-ND; Max Operating Temp (degreesC): 105; Mounting Technology: Surface Mount; Code_JEDEC: MS-013-AA; ComponentLink1Description: Manufacturer URL; ComponentLink1URL: http://www.analog.com/en/index.html; ComponentLink2Description: Datasheet; ComponentLink2URL: http://www.analog.com/static/imported-files/data_sheets/ADuM5000.pdf; ComponentLink3Description: Package Specification; ComponentLink3URL: http://www.analog.com/static/imported-files/packages/PKG_PDF/SOIC_WIDE%20%28RW%29/RW_16.pdf; ComponentLink4Description: URL Link1; ComponentLink4URL: Reference Circuit:http://www.analog.com/en/interface-isolation/digital-isolators/adum5000/products/product.html#product-recommendations
footprint ADI-RW-16_N (SOIC, 16-Leads, Body 10.3x7.5mm, Pitch 1.27mm, IPC Medium Density)
footprint ADI-RW-16_L (SOIC, 16-Leads, Body 10.3x7.5mm, Pitch 1.27mm, IPC High Density)
footprint ADI-RW-16_M (SOIC, 16-Leads, Body 10.3x7.5mm, Pitch 1.27mm, IPC Low Density)
part A pins: 1 VDD1 (power) "Primary Supply Voltage 3.0 V to 5.5 V. Pin 1 and Pin 7 are internally connected to each other, and it is recom-mended that both pins be externally connected to a common power source.", 2 GND1 (power) "Ground reference for the primary side of the converter. Pin 2 and Pin 8 are internally connected to each other, and it is recommended that both pins be connected to a common ground.", 4 RCIN (in) "Regulation Control Input. In slave power configuration (RCSEL = low), this pin is connected to the RCOUT pin of a master isoPower device, or tied low to disable the converter. In master/standalone mode (RCSEL = high), this (See Datasheet)", 5 RCOUT (out) "Regulation Control Input. In slave power configuration (RCSEL low), this pin is connected to the RCOUT pin of a master isoPower device, or it is tied low to disable the converter. In master or standalone mode (RCSEL high), (See Datasheet)", 6 RCSEL (in) "Control Input. Sets either self-regulation/master mode (RCSEL high) or slave mode (RCSEL low). This pin is weakly pulled to the high state. In noisy environments, tie this pin either high or low.", 7 VDD1 (power) "Primary Supply Voltage 3.0 V to 5.5 V. Pin 1 and Pin 7 are internally connected to each other, and it is recom-mended that both pins be externally connected to a common power source.", 8 GND1 (power) "Ground reference for the primary side of the converter. Pin 2 and Pin 8 are internally connected to each other, and it is recommended that both pins be connected to a common ground.", 9 GNDISO (power) "Ground Reference for the Secondary Side of the Converter. Pin 9 and Pin 15 are internally connected to each other, and it is recommended that both pins be connected to a common ground.", 10 VISO (power) "Secondary Supply Voltage Output for External Loads, 3.3 V (VSEL low) or 5.0 V (VSEL high). 5.0 V output functionality is not guaranteed for a 3.3 V primary supply input. Pin 10 and Pin 16 are internally connected to each (See Datasheet)", 13 VSEL (in) "Output Voltage Selection. When VSEL = VISO, the VISO setpoint is 5.0 V. When VSEL = GNDISO, the VISO setpoint is 3.3 V. This pin is weakly pulled to high. In noisy environments, tie this pin either high or low. In slave (See Datasheet)", 15 GNDISO (power) "Ground Reference for the Secondary Side of the Converter. Pin 9 and Pin 15 are internally connected to each other, and it is recommended that both pins be connected to a common ground.", 16 VISO (power) "Secondary Supply Voltage Output for External Loads, 3.3 V (VSEL low) or 5.0 V (VSEL high). 5.0 V output functionality is not guaranteed for a 3.3 V primary supply input. Pin 10 and Pin 16 are internally connected to each (See Datasheet)"
part B pins: 3 NC "No Internal Connection.", 11 NC "No Internal Connection.", 12 NC "No Internal Connection.", 14 NC "No Internal Connection."

## ADUM5000ARWZ-RL
designator U?
Isolated DC / DC Converter, 2.5 KV rms Insulation Rating, Industrial, 16-pin SOIC (RW-16), Reel; Manufacturer: Analog Devices; PartNumber: ADUM5000ARWZ-RL; Insulation Rating (kVrms): 2.5; DatasheetVersion: Rev. B; PackageVersion: 032707-B, 03/2007; PackageReference: RW-16; PackageDescription: 16-Pin Standard Small Outline Package, Body 10.3 x 7.5 mm, Pitch 1.27 mm; Supplier 1: Digi-Key; Supplier Part Number 1: ADUM5000ARWZ-RLTR-ND; Max Operating Temp (degreesC): 105; Mounting Technology: Surface Mount; Code_JEDEC: MS-013-AA; ComponentLink1Description: Manufacturer URL; ComponentLink1URL: http://www.analog.com/en/index.html; ComponentLink2Description: Datasheet; ComponentLink2URL: http://www.analog.com/static/imported-files/data_sheets/ADuM5000.pdf; ComponentLink3Description: Package Specification; ComponentLink3URL: http://www.analog.com/static/imported-files/packages/PKG_PDF/SOIC_WIDE%20%28RW%29/RW_16.pdf; ComponentLink4Description: URL Link1; ComponentLink4URL: Reference Circuit:http://www.analog.com/en/interface-isolation/digital-isolators/adum5000/products/product.html#product-recommendations
footprint ADI-RW-16_N (SOIC, 16-Leads, Body 10.3x7.5mm, Pitch 1.27mm, IPC Medium Density)
footprint ADI-RW-16_L (SOIC, 16-Leads, Body 10.3x7.5mm, Pitch 1.27mm, IPC High Density)
footprint ADI-RW-16_M (SOIC, 16-Leads, Body 10.3x7.5mm, Pitch 1.27mm, IPC Low Density)
part A pins: 1 VDD1 (power) "Primary Supply Voltage 3.0 V to 5.5 V. Pin 1 and Pin 7 are internally connected to each other, and it is recom-mended that both pins be externally connected to a common power source.", 2 GND1 (power) "Ground reference for the primary side of the converter. Pin 2 and Pin 8 are internally connected to each other, and it is recommended that both pins be connected to a common ground.", 4 RCIN (in) "Regulation Control Input. In slave power configuration (RCSEL = low), this pin is connected to the RCOUT pin of a master isoPower device, or tied low to disable the converter. In master/standalone mode (RCSEL = high), this (See Datasheet)", 5 RCOUT (out) "Regulation Control Input. In slave power configuration (RCSEL low), this pin is connected to the RCOUT pin of a master isoPower device, or it is tied low to disable the converter. In master or standalone mode (RCSEL high), (See Datasheet)", 6 RCSEL (in) "Control Input. Sets either self-regulation/master mode (RCSEL high) or slave mode (RCSEL low). This pin is weakly pulled to the high state. In noisy environments, tie this pin either high or low.", 7 VDD1 (power) "Primary Supply Voltage 3.0 V to 5.5 V. Pin 1 and Pin 7 are internally connected to each other, and it is recom-mended that both pins be externally connected to a common power source.", 8 GND1 (power) "Ground reference for the primary side of the converter. Pin 2 and Pin 8 are internally connected to each other, and it is recommended that both pins be connected to a common ground.", 9 GNDISO (power) "Ground Reference for the Secondary Side of the Converter. Pin 9 and Pin 15 are internally connected to each other, and it is recommended that both pins be connected to a common ground.", 10 VISO (power) "Secondary Supply Voltage Output for External Loads, 3.3 V (VSEL low) or 5.0 V (VSEL high). 5.0 V output functionality is not guaranteed for a 3.3 V primary supply input. Pin 10 and Pin 16 are internally connected to each (See Datasheet)", 13 VSEL (in) "Output Voltage Selection. When VSEL = VISO, the VISO setpoint is 5.0 V. When VSEL = GNDISO, the VISO setpoint is 3.3 V. This pin is weakly pulled to high. In noisy environments, tie this pin either high or low. In slave (See Datasheet)", 15 GNDISO (power) "Ground Reference for the Secondary Side of the Converter. Pin 9 and Pin 15 are internally connected to each other, and it is recommended that both pins be connected to a common ground.", 16 VISO (power) "Secondary Supply Voltage Output for External Loads, 3.3 V (VSEL low) or 5.0 V (VSEL high). 5.0 V output functionality is not guaranteed for a 3.3 V primary supply input. Pin 10 and Pin 16 are internally connected to each (See Datasheet)"
part B pins: 3 NC "No Internal Connection.", 11 NC "No Internal Connection.", 12 NC "No Internal Connection.", 14 NC "No Internal Connection."

## ADUM5000WARWZ
designator U?
Isolated DC / DC Converter, 2.5 KV rms Insulation Rating, Automotive, 16-pin SOIC (RW-16), Tube; Manufacturer: Analog Devices; PartNumber: ADUM5000WARWZ; Automotive Qualified: Yes; Insulation Rating (kVrms): 2.5; DatasheetVersion: Rev. B; PackageVersion: 032707-B, 03/2007; PackageReference: RW-16; PackageDescription: 16-Pin Standard Small Outline Package, Body 10.3 x 7.5 mm, Pitch 1.27 mm; Supplier 1: Digi-Key; Supplier Part Number 1: ADUM5000WARWZ-ND; Max Operating Temp (degreesC): 105; Mounting Technology: Surface Mount; Code_JEDEC: MS-013-AA; ComponentLink1Description: Manufacturer URL; ComponentLink1URL: http://www.analog.com/en/index.html; ComponentLink2Description: Datasheet; ComponentLink2URL: http://www.analog.com/static/imported-files/data_sheets/ADuM5000.pdf; ComponentLink3Description: Package Specification; ComponentLink3URL: http://www.analog.com/static/imported-files/packages/PKG_PDF/SOIC_WIDE%20%28RW%29/RW_16.pdf; ComponentLink4Description: URL Link1; ComponentLink4URL: Reference Circuit:http://www.analog.com/en/interface-isolation/digital-isolators/adum5000/products/product.html#product-recommendations
footprint ADI-RW-16_N (SOIC, 16-Leads, Body 10.3x7.5mm, Pitch 1.27mm, IPC Medium Density)
footprint ADI-RW-16_L (SOIC, 16-Leads, Body 10.3x7.5mm, Pitch 1.27mm, IPC High Density)
footprint ADI-RW-16_M (SOIC, 16-Leads, Body 10.3x7.5mm, Pitch 1.27mm, IPC Low Density)
part A pins: 1 VDD1 (power) "Primary Supply Voltage 3.0 V to 5.5 V. Pin 1 and Pin 7 are internally connected to each other, and it is recom-mended that both pins be externally connected to a common power source.", 2 GND1 (power) "Ground reference for the primary side of the converter. Pin 2 and Pin 8 are internally connected to each other, and it is recommended that both pins be connected to a common ground.", 4 RCIN (in) "Regulation Control Input. In slave power configuration (RCSEL = low), this pin is connected to the RCOUT pin of a master isoPower device, or tied low to disable the converter. In master/standalone mode (RCSEL = high), this (See Datasheet)", 5 RCOUT (out) "Regulation Control Input. In slave power configuration (RCSEL low), this pin is connected to the RCOUT pin of a master isoPower device, or it is tied low to disable the converter. In master or standalone mode (RCSEL high), (See Datasheet)", 6 RCSEL (in) "Control Input. Sets either self-regulation/master mode (RCSEL high) or slave mode (RCSEL low). This pin is weakly pulled to the high state. In noisy environments, tie this pin either high or low.", 7 VDD1 (power) "Primary Supply Voltage 3.0 V to 5.5 V. Pin 1 and Pin 7 are internally connected to each other, and it is recom-mended that both pins be externally connected to a common power source.", 8 GND1 (power) "Ground reference for the primary side of the converter. Pin 2 and Pin 8 are internally connected to each other, and it is recommended that both pins be connected to a common ground.", 9 GNDISO (power) "Ground Reference for the Secondary Side of the Converter. Pin 9 and Pin 15 are internally connected to each other, and it is recommended that both pins be connected to a common ground.", 10 VISO (power) "Secondary Supply Voltage Output for External Loads, 3.3 V (VSEL low) or 5.0 V (VSEL high). 5.0 V output functionality is not guaranteed for a 3.3 V primary supply input. Pin 10 and Pin 16 are internally connected to each (See Datasheet)", 13 VSEL (in) "Output Voltage Selection. When VSEL = VISO, the VISO setpoint is 5.0 V. When VSEL = GNDISO, the VISO setpoint is 3.3 V. This pin is weakly pulled to high. In noisy environments, tie this pin either high or low. In slave (See Datasheet)", 15 GNDISO (power) "Ground Reference for the Secondary Side of the Converter. Pin 9 and Pin 15 are internally connected to each other, and it is recommended that both pins be connected to a common ground.", 16 VISO (power) "Secondary Supply Voltage Output for External Loads, 3.3 V (VSEL low) or 5.0 V (VSEL high). 5.0 V output functionality is not guaranteed for a 3.3 V primary supply input. Pin 10 and Pin 16 are internally connected to each (See Datasheet)"
part B pins: 3 NC "No Internal Connection.", 11 NC "No Internal Connection.", 12 NC "No Internal Connection.", 14 NC "No Internal Connection."

## ADUM5000WARWZ-RL
designator U?
Isolated DC / DC Converter, 2.5 KV rms Insulation Rating, Automotive, 16-pin SOIC (RW-16), Reel; Manufacturer: Analog Devices; PartNumber: ADUM5000WARWZ-RL; Automotive Qualified: Yes; Insulation Rating (kVrms): 2.5; DatasheetVersion: Rev. B; PackageVersion: 032707-B, 03/2007; PackageReference: RW-16; PackageDescription: 16-Pin Standard Small Outline Package, Body 10.3 x 7.5 mm, Pitch 1.27 mm; Supplier 1: Digi-Key; Supplier Part Number 1: ADUM5000WARWZ-RL-ND; Max Operating Temp (degreesC): 105; Mounting Technology: Surface Mount; Code_JEDEC: MS-013-AA; ComponentLink1Description: Manufacturer URL; ComponentLink1URL: http://www.analog.com/en/index.html; ComponentLink2Description: Datasheet; ComponentLink2URL: http://www.analog.com/static/imported-files/data_sheets/ADuM5000.pdf; ComponentLink3Description: Package Specification; ComponentLink3URL: http://www.analog.com/static/imported-files/packages/PKG_PDF/SOIC_WIDE%20%28RW%29/RW_16.pdf; ComponentLink4Description: URL Link1; ComponentLink4URL: Reference Circuit:http://www.analog.com/en/interface-isolation/digital-isolators/adum5000/products/product.html#product-recommendations
footprint ADI-RW-16_N (SOIC, 16-Leads, Body 10.3x7.5mm, Pitch 1.27mm, IPC Medium Density)
footprint ADI-RW-16_L (SOIC, 16-Leads, Body 10.3x7.5mm, Pitch 1.27mm, IPC High Density)
footprint ADI-RW-16_M (SOIC, 16-Leads, Body 10.3x7.5mm, Pitch 1.27mm, IPC Low Density)
part A pins: 1 VDD1 (power) "Primary Supply Voltage 3.0 V to 5.5 V. Pin 1 and Pin 7 are internally connected to each other, and it is recom-mended that both pins be externally connected to a common power source.", 2 GND1 (power) "Ground reference for the primary side of the converter. Pin 2 and Pin 8 are internally connected to each other, and it is recommended that both pins be connected to a common ground.", 4 RCIN (in) "Regulation Control Input. In slave power configuration (RCSEL = low), this pin is connected to the RCOUT pin of a master isoPower device, or tied low to disable the converter. In master/standalone mode (RCSEL = high), this (See Datasheet)", 5 RCOUT (out) "Regulation Control Input. In slave power configuration (RCSEL low), this pin is connected to the RCOUT pin of a master isoPower device, or it is tied low to disable the converter. In master or standalone mode (RCSEL high), (See Datasheet)", 6 RCSEL (in) "Control Input. Sets either self-regulation/master mode (RCSEL high) or slave mode (RCSEL low). This pin is weakly pulled to the high state. In noisy environments, tie this pin either high or low.", 7 VDD1 (power) "Primary Supply Voltage 3.0 V to 5.5 V. Pin 1 and Pin 7 are internally connected to each other, and it is recom-mended that both pins be externally connected to a common power source.", 8 GND1 (power) "Ground reference for the primary side of the converter. Pin 2 and Pin 8 are internally connected to each other, and it is recommended that both pins be connected to a common ground.", 9 GNDISO (power) "Ground Reference for the Secondary Side of the Converter. Pin 9 and Pin 15 are internally connected to each other, and it is recommended that both pins be connected to a common ground.", 10 VISO (power) "Secondary Supply Voltage Output for External Loads, 3.3 V (VSEL low) or 5.0 V (VSEL high). 5.0 V output functionality is not guaranteed for a 3.3 V primary supply input. Pin 10 and Pin 16 are internally connected to each (See Datasheet)", 13 VSEL (in) "Output Voltage Selection. When VSEL = VISO, the VISO setpoint is 5.0 V. When VSEL = GNDISO, the VISO setpoint is 3.3 V. This pin is weakly pulled to high. In noisy environments, tie this pin either high or low. In slave (See Datasheet)", 15 GNDISO (power) "Ground Reference for the Secondary Side of the Converter. Pin 9 and Pin 15 are internally connected to each other, and it is recommended that both pins be connected to a common ground.", 16 VISO (power) "Secondary Supply Voltage Output for External Loads, 3.3 V (VSEL low) or 5.0 V (VSEL high). 5.0 V output functionality is not guaranteed for a 3.3 V primary supply input. Pin 10 and Pin 16 are internally connected to each (See Datasheet)"
part B pins: 3 NC "No Internal Connection.", 11 NC "No Internal Connection.", 12 NC "No Internal Connection.", 14 NC "No Internal Connection."